# Altium footprint library Resistor.PcbLib: 10 footprints
Each footprint in its own frame and in the unit in brackets; x right, y up, seen from the top. Pads: shape width x height; smd on the part's side, far side on the other; paste and mask are expansions set on the pad; w line width, h text height; cw(c..) or ccw(c..) is an arc to the next point about the centre after c.
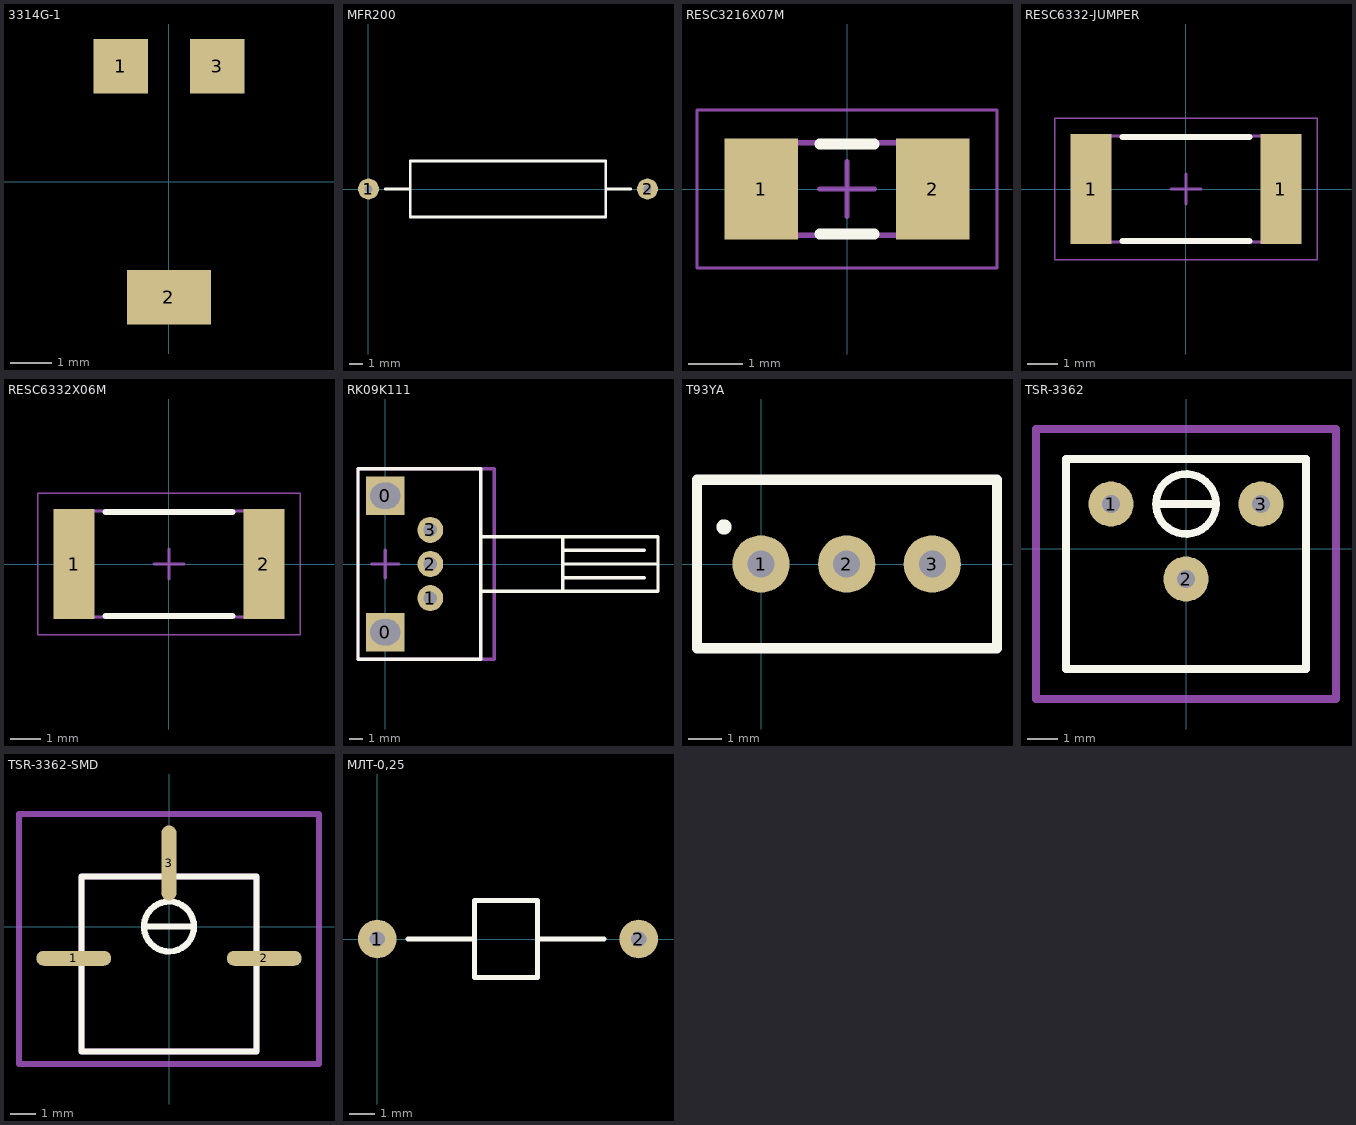
[diagram p0: the footprints below, top view; thin cyan lines are the x and y axes]

## 3314G-1 [mm] "Signle-rotation pot"
pads (3):
  rect 1.3x1.3 smd: 1(-1.15,2.75) 3(1.15,2.75)
  rect 2x1.3 smd: 2(0,-2.75)
3D body: height 2.77, standoff 0.04, extent -2.499,-2.999 2.5,3.199

## MFR200 [mm] "2W resistor"
height 5
pads (2):
  round 1.5 hole 0.6: 1(0,0) 2(20,0)
Top Overlay:
  lines w0.2: 1.2,0 3,0 ; 17,0 18.8,0 ; 3,0 3,2 17,2 17,-2 3,-2 3,0
3D body: height 2.9, standoff 2.1, extent 15,-0.399 20,0.399
3D body: height 2.9, standoff 2.1, extent 0,-0.399 5,0.399
3D body: height 2.5, standoff 0, extent 19.603,-0.399 20.4,0.399
3D body: height 2.5, standoff 0, extent -0.397,-0.399 0.4,0.399
3D body: height 4.98, standoff 0, extent 3,-2.495 17,2.495
3D body: height 2.9, standoff 2.1, extent -0.396,-0.398 0.4,0.398
3D body: height 2.9, standoff 2.1, extent 19.604,-0.398 20.4,0.398

## RESC3216X07M [mm] "Chip Resistor, 2-Leads, Body 3,10x1,60mm, IPC Low Density"
height 0.65
pads (2):
  rect 1.35x1.85 smd: 1(-1.575,0) 2(1.575,0)
Top Overlay:
  lines w0.2: -0.5,-0.825 0.5,-0.825 ; -0.5,0.825 0.5,0.825
Mechanical 13:
  lines w0.1: -1.6,-0.85 -1.6,0.85 1.6,0.85 1.6,-0.85 -1.6,-0.85
Mechanical 15:
  lines w0.05: -2.75,-1.45 -2.75,1.45 2.75,1.45 2.75,-1.45 -2.75,-1.45
  lines w0.1: -0.5,0 0.5,0 ; 0,-0.5 0,0.5
3D body: height 0.65, standoff 0, extent -1.17,-0.85 1.17,0.85
3D body: height 0.65, standoff 0, extent -1.6,-0.85 -1.17,0.85
3D body: height 0.65, standoff 0, extent 1.17,-0.85 1.6,0.85

## RESC6332-JUMPER [mm] "Chip Resistor, 2-Leads, Body 6,40x3,30mm, IPC Low Density"
height 0.6
pads (2):
  rect 1.35x3.65 smd: 1(-3.15,0) 1(3.15,0)
Top Overlay:
  lines w0.2: -2.1,-1.725 2.1,-1.725 ; -2.1,1.725 2.1,1.725
Mechanical 13:
  lines w0.1: -3.25,-1.75 -3.25,1.75 3.25,1.75 3.25,-1.75 -3.25,-1.75
Mechanical 15:
  lines w0.05: -4.35,-2.35 -4.35,2.35 4.35,2.35 4.35,-2.35 -4.35,-2.35
  lines w0.1: -0.5,0 0.5,0 ; 0,-0.5 0,0.5
3D body: height 0.6, standoff 0, extent -2.62,-1.75 2.62,1.75
3D body: height 0.6, standoff 0, extent -3.25,-1.75 -2.62,1.75
3D body: height 0.6, standoff 0, extent 2.62,-1.75 3.25,1.75

## RESC6332X06M [mm] "Chip Resistor, 2-Leads, Body 6,40x3,30mm, IPC Low Density"
height 0.6
pads (2):
  rect 1.35x3.65 smd: 1(-3.15,0) 2(3.15,0)
Top Overlay:
  lines w0.2: -2.1,-1.725 2.1,-1.725 ; -2.1,1.725 2.1,1.725
Mechanical 13:
  lines w0.1: -3.25,-1.75 -3.25,1.75 3.25,1.75 3.25,-1.75 -3.25,-1.75
Mechanical 15:
  lines w0.05: -4.35,-2.35 -4.35,2.35 4.35,2.35 4.35,-2.35 -4.35,-2.35
  lines w0.1: -0.5,0 0.5,0 ; 0,-0.5 0,0.5
3D body: height 0.6, standoff 0, extent -2.62,-1.75 2.62,1.75
3D body: height 0.6, standoff 0, extent -3.25,-1.75 -2.62,1.75
3D body: height 0.6, standoff 0, extent 2.62,-1.75 3.25,1.75

## RK09K111 [mm]
height 13
pads (5):
  rect 2.8x2.8 hole 1.9 slot 2.2 at 0 deg: 0(0,-5) 0(0,5)
  round 1.9 hole 1: 1(3.3,-2.5) 2(3.3,0) 3(3.3,2.5)
Top Overlay:
  lines w0.254: 13,-2 13,2 ; 13,-1 19,-1 ; 13,0 19,0 20,0 ; 13,1 19,1 ; 7,-2 7,2 ; 7,-2 7,-7 -2,-7 -2,7 7,7 7,2 ; 7,-2 20,-2 20,2 7,2
Mechanical 13:
  lines w0.254: -2,-7 8,-7 8,7 -2,7 -2,-7
Mechanical 15:
  lines w0.254: -1,0 0,0 ; 0,-1 0,0 ; 0,1 0,0 ; 1,0 0,0 ; -2,-7 8,-7 8,7 -2,7 -2,-7
3D body: height 12.1, standoff -3.7, extent -2.4,-4.9 19.9,4.9

## T93YA [mm] "3/8\" Square Multi-Turn Cermet Trimmer"
pads (3):
  round 1.7 hole 0.8: 1(0,0) 2(2.54,0) 3(5.08,0)
Top Overlay:
  circle w0.254: c-1.1,1.1 r0.1
  lines w0.3: -1.9,-2.5 7,-2.5 7,2.5 -1.9,2.5 -1.9,-2.5
3D body: height 11.2, standoff 9.9, extent 4.509,-2.098 6.7,0.098
3D body: height 9.9, standoff 1, extent -1.9,-2.4 7,2.4
3D body: height 1, standoff 0, extent -0.248,-0.249 0.25,0.25
3D body: height 1, standoff 0, extent 2.292,-0.249 2.79,0.25
3D body: height 1, standoff 0, extent 4.832,-0.249 5.33,0.25

## TSR-3362 [mm]
pads (3):
  round 1.5 hole 0.6: 1(-2.5,1.5) 2(0,-1) 3(2.5,1.5)
Top Overlay:
  circle w0.254: c0,1.5 r1
  lines w0.254: -1,1.5 1,1.5 ; -4,-4 4,-4 4,3 -4,3 -4,-4
Mechanical 13:
  lines w0.254: -4,-4 4,-4 4,3 -4,3 -4,-4
Mechanical 15:
  lines w0.254: -5,-5 -5,4 5,4 5,-5 -5,-5
3D body: height 4.7, standoff 0.05, extent -4,-4 4,3

## TSR-3362-SMD [mm]
pads (3):
  oval 3x0.6 smd: 1(-3.81,-1.27) 2(3.81,-1.27)
  oval 0.6x3 smd: 3(0,2.54)
Top Overlay:
  circle w0.254: c0,0 r1
  lines w0.254: -1,0 1,0 ; -3.5,-5 -3.5,2 3.5,2 3.5,-5 -3.5,-5
Mechanical 13:
  lines w0.254: -3.5,-5 3.5,-5 3.5,2 -3.5,2 -3.5,-5
Mechanical 15:
  lines w0.254: -6,-5.5 -6,4.5 6,4.5 6,-5.5 -6,-5.5
3D body: height 4.7, standoff 0.05, extent -3.5,-5 3.5,2

## МЛТ-0,25 [mm]
pads (2):
  round 1.5 hole 0.6: 1(0,0) 2(10.16,0)
Top Overlay:
  lines w0.2: 1.2,0 3.775,0 ; 6.225,0 8.8,0 ; 3.775,0 3.775,1.5 6.225,1.5 6.225,-1.5 3.775,-1.5 3.775,0
3D body: height 3.98, standoff 0, extent 2,-1.996 8,1.996
3D body: height 2, standoff 0, extent 9.862,-0.299 10.46,0.299
3D body: height 2, standoff 0, extent -0.298,-0.299 0.3,0.299
3D body: height 2.3, standoff 1.7, extent 0,-0.299 3,0.299
3D body: height 2.3, standoff 1.7, extent 7.161,-0.305 10.161,0.294
3D body: height 2.3, standoff 1.7, extent 9.863,-0.299 10.46,0.299
3D body: height 2.3, standoff 1.7, extent -0.297,-0.299 0.3,0.299